# Altium schematic symbol library mosfet_n_diode_r_vd_double.SchLib: 1 symbol
Pins are listed as number, name and electrical type; pins without a type are passive.

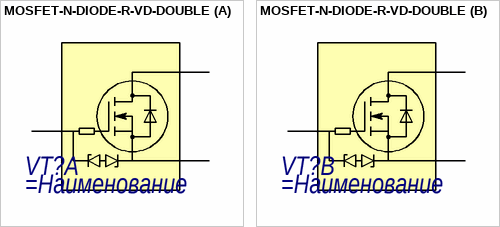
[diagram p0: symbol MOSFET-N-DIODE-R-VD-DOUBLE]

## MOSFET-N-DIODE-R-VD-DOUBLE
designator VT?
=Описание
part A pins: D1, G1, S1
part B pins: D2, G2, S2